# EAGLE library part SMD-FILTER-2400~2500MHZ-FB2012-05N2R4GT(8P-2X1.25MM) (library Seeed-OPL-Crystal-Oscillator)
306050010
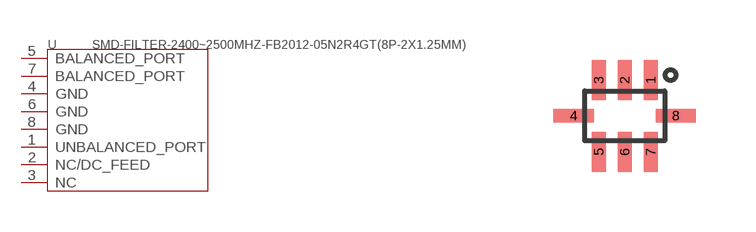
[diagram p2: symbol with the pads of LGA8-0.65-2X1.25MM; footprint LGA8-0.65-2X1.25MM]

Designator prefix U

## SMD-FILTER-2400~2500MHZ-FB2012-05N2R4GT(8P-2X1.25MM) (MPN: FB2012-05N2R4GT; VALUE: FB2012-05N2R4GT)  [LGA8-0.65-2X1.25MM]
1  UNBALANCED_PORT
2  NC/DC_FEED
3  NC
4  GND
5  BALANCED_PORT
6  GND
7  BALANCED_PORT
8  GND

## Footprint LGA8-0.65-2X1.25MM (pad centres in mm)
smd 0.35 x 1: 1 0.65,0.9; 2 0,0.9; 3 -0.65,0.9; 5 -0.65,-0.9; 6 0,-0.9; 7 0.65,-0.9
smd 1 x 0.35: 4 -1.281,0; 8 1.281,0